# Altium schematic symbol library Electrical.SchLib: 40 symbols
Pins are listed as number, name and electrical type; pins without a type are passive.

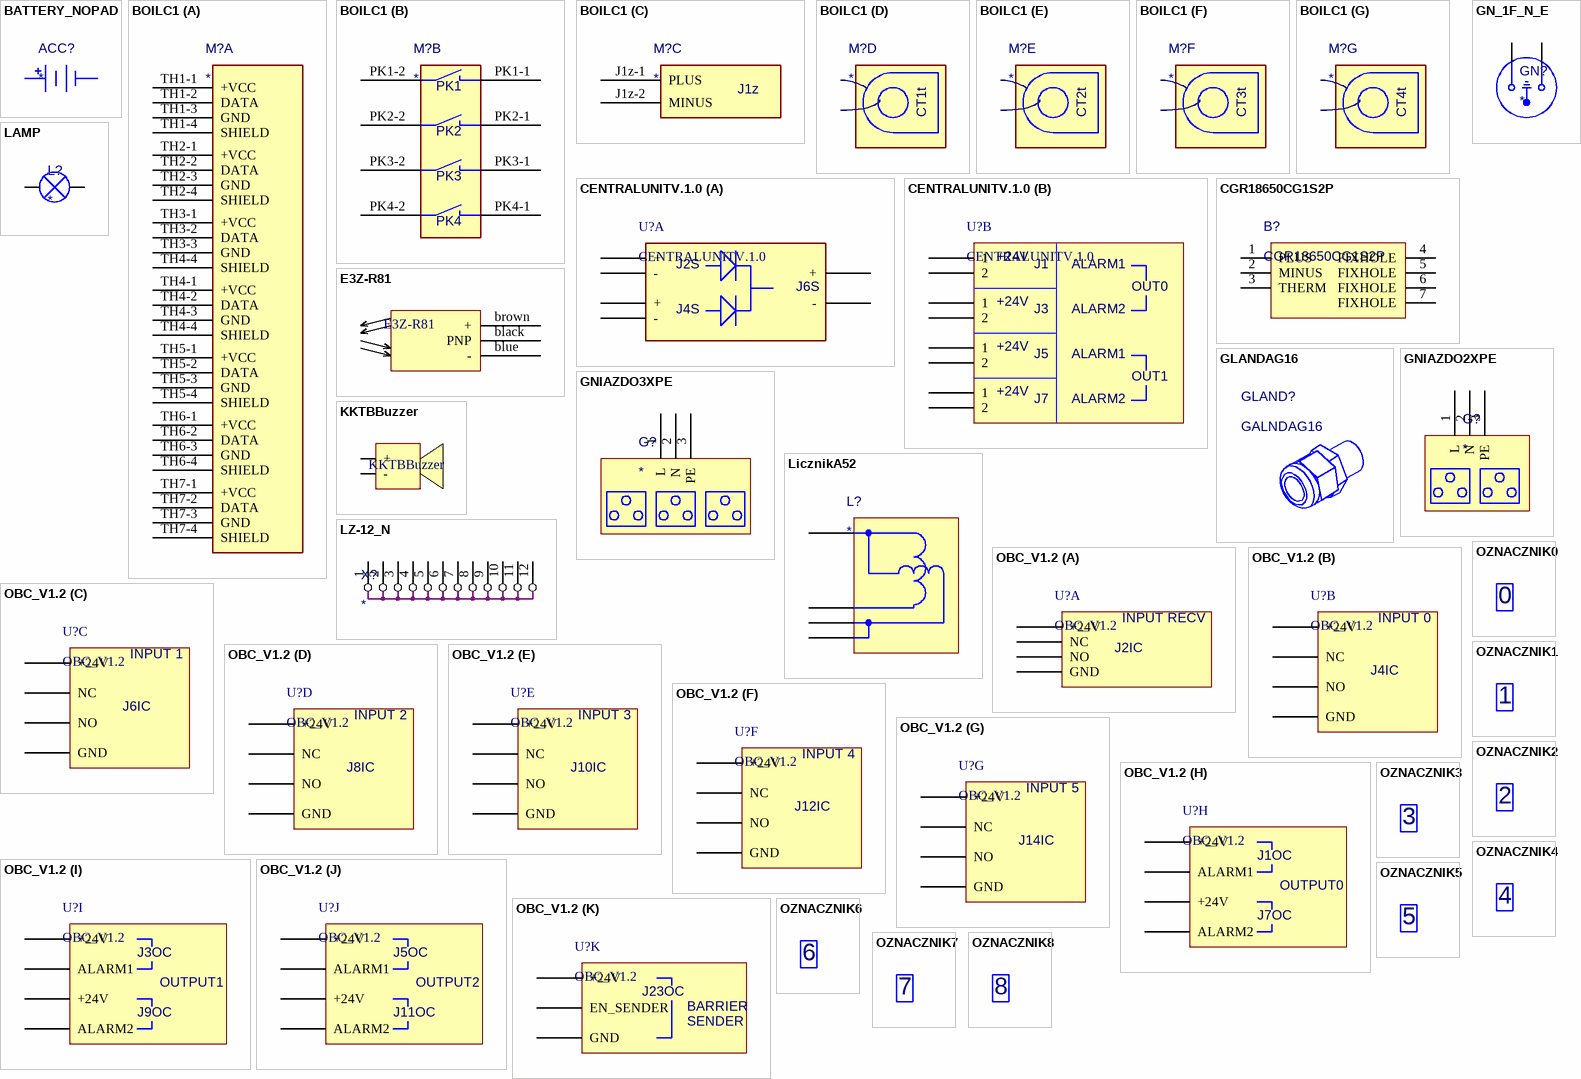
[diagram p0: symbols BATTERY_NOPAD to OZNACZNIK8]

## BATTERY_NOPAD
designator ACC?
Value: *

## BOILC1
designator M?
Value: *
part A pins: TH1-1 +VCC, TH1-2 DATA, TH1-3 GND, TH1-4 SHIELD, TH2-1 +VCC, TH2-2 DATA, TH2-3 GND, TH2-4 SHIELD, TH3-1 +VCC, TH3-2 DATA, TH3-3 GND, TH4-1 +VCC, TH4-2 DATA, TH4-3 GND, TH4-4 SHIELD, TH4-4 SHIELD, TH5-1 +VCC, TH5-2 DATA, TH5-3 GND, TH5-4 SHIELD, TH6-1 +VCC, TH6-2 DATA, TH6-3 GND, TH6-4 SHIELD, TH7-1 +VCC, TH7-2 DATA, TH7-3 GND, TH7-4 SHIELD
part B pins: PK1-1, PK1-2, PK2-1, PK2-2, PK3-1, PK3-2, PK4-1, PK4-2
part C pins: J1z-1 PLUS, J1z-2 MINUS
part B text: PK1; PK2; PK3; PK4
part C text: J1z
part D text: CT1t
part E text: CT2t
part F text: CT3t
part G text: CT4t

## CENTRALUNITV.1.0
designator U?  (no BOM)
Value: CENTRALUNITV.1.0
part A pins: 1 +, 2 -, 3 +, 4 -, 5 +, 6 -
part B pins: 7 1, 8 2, 9 1, 10 2, 11 1, 12 2, 13 1, 14 2
part A text: J2S; J6S; J4S
part B text: +24V; J1; ALARM1; OUT0; J3; ALARM2; J5; OUT1; J7

## CGR18650CG1S2P
designator B?
Value: CGR18650CG1S2P
pins: 1 PLUS, 2 MINUS, 3 THERM, 4 FIXHOLE, 5 FIXHOLE, 6 FIXHOLE, 7 FIXHOLE

## E3Z-R81
designator S?
Value: E3Z-R81
pins: black PNP, blue -, brown +

## GLANDAG16
designator GLAND?, comment GALNDAG16
Value: GALNDAG16

## GN_1F_N_E
designator GN?
Value: *
pins: 13, 14

## GNIAZDO2XPE
designator G?
pins: 1 L, 2 N, 3 PE

## GNIAZDO3XPE
designator G?
pins: 1 L, 2 N, 3 PE

## KKTBBuzzer
designator B?
Value: KKTBBuzzer
pins: 0 +, 1 -

## LAMP
designator L?
pins: N, P

## LicznikA52
designator L?
pins: 1, 2, 3, 4

## LZ-12_N
designator X?
Value: *
pins: 1, 2, 3, 4, 5, 6, 7, 8, 9, 10, 11, 12

## OBC_V1.2
designator U?  (no BOM)
Value: OBC_V1.2
part A pins: 1 GND, 2 NO, 3 NC, 4 +24V
part B pins: 5 +24V, 6 NC, 7 NO, 8 GND
part C pins: 9 +24V, 10 NC, 11 NO, 12 GND
part D pins: 13 +24V, 14 NC, 15 NO, 16 GND
part E pins: 17 +24V, 18 NC, 19 NO, 20 GND
part F pins: 21 +24V, 22 NC, 23 NO, 24 GND
part G pins: 25 +24V, 26 NC, 27 NO, 28 GND
part H pins: 29 +24V, 30 ALARM1, 31 +24V, 32 ALARM2
part I pins: 33 +24V, 34 ALARM1, 35 +24V, 36 ALARM2
part J pins: 37 +24V, 38 ALARM1, 39 +24V, 40 ALARM2
part K pins: 41 +24V, 42 EN_SENDER, 43 GND
part A text: INPUT RECV; J2IC
part B text: INPUT 0; J4IC
part C text: INPUT 1; J6IC
part D text: INPUT 2; J8IC
part E text: INPUT 3; J10IC
part F text: INPUT 4; J12IC
part G text: INPUT 5; J14IC
part H text: J1OC; OUTPUT0; J7OC
part I text: J3OC; OUTPUT1; J9OC
part J text: J5OC; OUTPUT2; J11OC
part K text: J23OC; BARRIER; SENDER

## OZNACZNIK0
designator O?  (value not drawn)
Value: OZNACZNIK0
text: 0

## OZNACZNIK1
designator O?  (value not drawn)
Value: OZNACZNIK1
text: 1

## OZNACZNIK2
designator O?  (value not drawn)
Value: OZNACZNIK2
text: 2

## OZNACZNIK3
designator O?  (value not drawn)
Value: OZNACZNIK3
text: 3

## OZNACZNIK4
designator O?  (value not drawn)
Value: OZNACZNIK4
text: 4

## OZNACZNIK5
designator O?  (value not drawn)
Value: OZNACZNIK5
text: 5

## OZNACZNIK6
designator O?  (value not drawn)
Value: OZNACZNIK6
text: 6

## OZNACZNIK7
designator O?  (value not drawn)
Value: OZNACZNIK7
text: 7

## OZNACZNIK8
designator O?  (value not drawn)
Value: OZNACZNIK8
text: 8

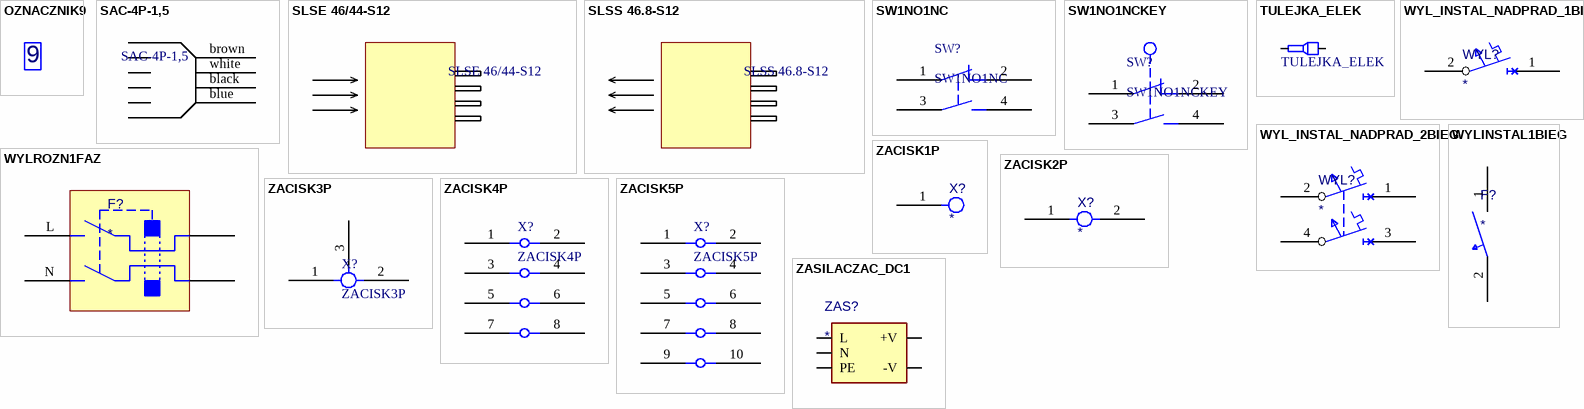
[diagram p1: symbols OZNACZNIK9 to ZASILACZAC_DC1]

## OZNACZNIK9
designator O?  (value not drawn)
Value: OZNACZNIK9
text: 9

## SAC-4P-1,5
designator K?
Value: SAC-4P-1,5
pins: black 2, blue 3, brown 0, white 1

## SLSE 46/44-S12
designator K?
Value: SLSE 46/44-S12

## SLSS 46.8-S12
designator K?
Value: SLSS 46.8-S12

## SW1NO1NC
designator SW?
Value: SW1NO1NC
pins: 1, 2, 3, 4

## SW1NO1NCKEY
designator SW?
Value: SW1NO1NCKEY
pins: 1, 2, 3, 4

## TULEJKA_ELEK
designator SL?
Value: TULEJKA_ELEK
pins: 1, 2

## WYL_INSTAL_NADPRAD_1BIEG
designator WYL?
Value: *
pins: 1, 2

## WYL_INSTAL_NADPRAD_2BIEG
designator WYL?
Value: *
pins: 1, 2, 3, 4

## WYLINSTAL1BIEG
designator F?
Value: *
pins: 1, 2

## WYLROZN1FAZ
designator F?
pins: L, L1, N, N1

## ZACISK1P
designator X?
Value: *
pins: 1

## ZACISK2P
designator X?
Value: *
pins: 1, 2

## ZACISK3P
designator X?
Value: ZACISK3P
pins: 1, 2, 3

## ZACISK4P
designator X?
Value: ZACISK4P
pins: 1, 2, 3, 4, 5, 6, 7, 8

## ZACISK5P
designator X?
Value: ZACISK5P
pins: 1, 2, 3, 4, 5, 6, 7, 8, 9, 10

## ZASILACZAC_DC1
designator ZAS?
Value: *
pins: 1 L, 2 N, 3 PE, 5 +V, 6 -V